# EAGLE library part DC/DC_ISOLATED_DUAL_OUTPUT_RC_TRIM (library Bauteile)
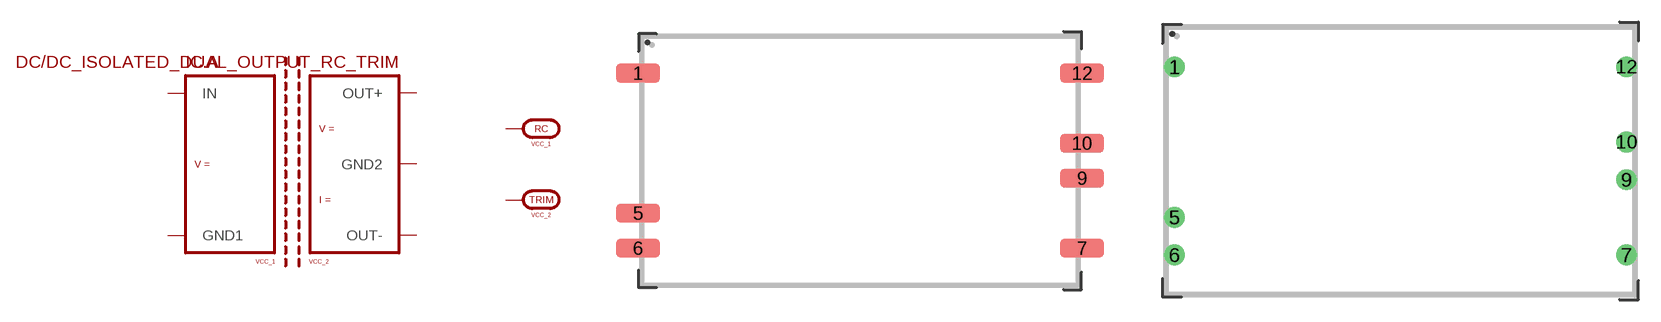
[diagram p193: symbol with the pads of SUW6XXXXB; footprints SUW6XXXXB, SUW6XXXXC]

Designator prefix IC; gates .A=DC/DC_ISOLATED_DUAL_OUTPUT .RC=PIN_RC .TRIM=PIN_TRIM

## DC/DC_ISOLATED_DUAL_OUTPUT_RC_TRIM(SUW6XXXXB)  [SUW6XXXXB]
1  .A:IN
5  .RC:RC
6  .A:GND1
7  .A:OUT-
9  .TRIM:TRIM
10  .A:GND2
12  .A:OUT+

## DC/DC_ISOLATED_DUAL_OUTPUT_RC_TRIM(SUW6XXXXC)  [SUW6XXXXC]
Pads as for SUW6XXXXB

## Footprint SUW6XXXXB (pad centres in mm)
smd 3.2 x 1.4: 1 -16.09,6.35; 5 -16.09,-3.81; 6 -16.09,-6.35; 7 16.09,-6.35; 9 16.09,-1.27; 10 16.09,1.27; 12 16.09,6.35

## Footprint SUW6XXXXC (pad centres in mm)
drill 0.9: 1 -15.24,6.35; 5 -15.24,-3.81; 6 -15.24,-6.35; 7 15.24,-6.35; 9 15.24,-1.27; 10 15.24,1.27; 12 15.24,6.35